# EAGLE library part BEAGLEBONE_BLUE_R3_S-8261 (library EagleTestLibrary_3)
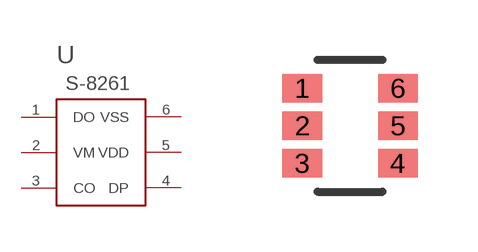
[diagram p12: symbol with the pads of BEAGLEBONE_BLUE_R3_SOT-236; footprint BEAGLEBONE_BLUE_R3_SOT-236]

Designator prefix -

## BEAGLEBONE_BLUE_R3_S-8261  [BEAGLEBONE_BLUE_R3_SOT-236]
1  DO
2  VM
3  CO
4  DP
5  VDD
6  VSS

## Footprint BEAGLEBONE_BLUE_R3_SOT-236 (pad centres in mm)
smd 0.991 x 0.711: 1 -1.194,0.94; 2 -1.194,0; 3 -1.194,-0.94; 4 1.194,-0.94; 5 1.194,0; 6 1.194,0.94